# EAGLE library part UJ2-MIBH-G-SMT-TR (library UJ2-MIBH-G-SMT-TR)
USB micro B type receptacle
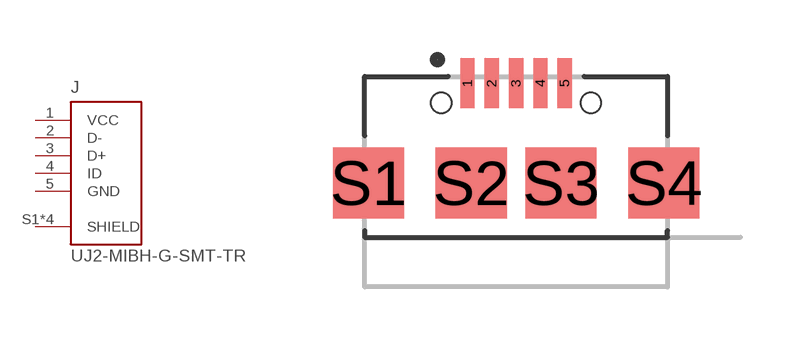
[diagram p0: symbol with the pads of CUI_UJ2-MIBH-G-SMT-TR; footprint CUI_UJ2-MIBH-G-SMT-TR]

Designator prefix J

## UJ2-MIBH-G-SMT-TR (MANUFACTURER: CUI; MAXIMUM_PACKAGE_HEIGHT: 2.95 mm; PARTREV: 1.0; STANDARD: Manufacturer Recommendations)  [CUI_UJ2-MIBH-G-SMT-TR]
1  VCC  pwr
2  D-
3  D+
4  ID
5  GND  pwr
S1  SHIELD  pas
S2  SHIELD  pas
S3  SHIELD  pas
S4  SHIELD  pas

## Footprint CUI_UJ2-MIBH-G-SMT-TR (pad centres in mm)
smd 0.381 x 1.346: 1 -1.3,2.675; 2 -0.65,2.675; 3 0,2.675; 4 0.65,2.675; 5 1.3,2.675
smd 1.9 x 1.9: S1 -3.95,0; S2 -1.2,0; S3 1.2,0; S4 3.95,0
hole 0.55 at -2,2.15
hole 0.55 at 2,2.15